# EAGLE library part MAX44206 (library OP_AMP)
The MAX44206 is a low-noise, low-distortion fully differential operational amplifier suitable for driving high-speed, high-resolution, 20-/18-/16-bit SAR ADCs, including the MAX11905 ADC family. Featuring a combination of wide 2.7V to 13.2V supply voltage range and wide 400MHz bandwidth, the MAX44206 is suitable for low-power, highperformance data acquisition systems. The MAX44206 offers a VOCM input to adjust the output common-mode voltage, eliminating the need for a coupling transformer or AC-coupling capacitors. This adjustable output common-mode voltage allows the MAX44206 to match the input common-mode voltage range of the ADC following it. Shutdown mode consumes only 6.8μA and extends battery life in battery-powered applications or reduces average power in systems cycling between shutdown and periodic data readings. The MAX44206 is available in an 8-pin μMAX® package and is specified for operation over the -40°C to +125°C temperature range.
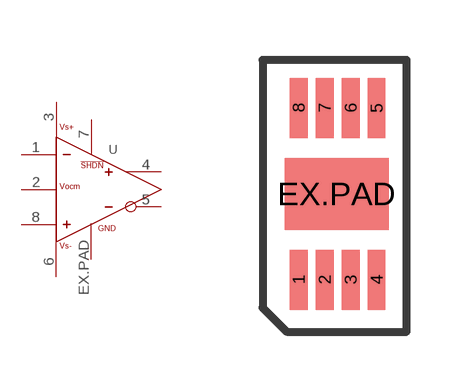
[diagram p1: symbol with the pads of 8UMAX-EP; footprint 8UMAX-EP]

Designator prefix U

## MAX44206AUA+  [8UMAX-EP]
1  IN-
2  VOCM
3  V+
4  OUT+
5  OUT-
6  V-
7  !SHDN
8  IN+
EX.PAD  GND

## Footprint 8UMAX-EP (pad centres in mm)
smd 0.45 x 1.5: 1 0,0; 2 0.65,0; 3 1.3,0; 4 1.95,0; 5 1.95,4.3; 6 1.3,4.3; 7 0.65,4.3; 8 0,4.3
smd 2.6 x 1.8: EX.PAD 0.95,2.15